# Altium integrated library Analog Devices Data Converters Analog-to-Digital Converters.IntLib: 2404 symbols (part 263 of 346)
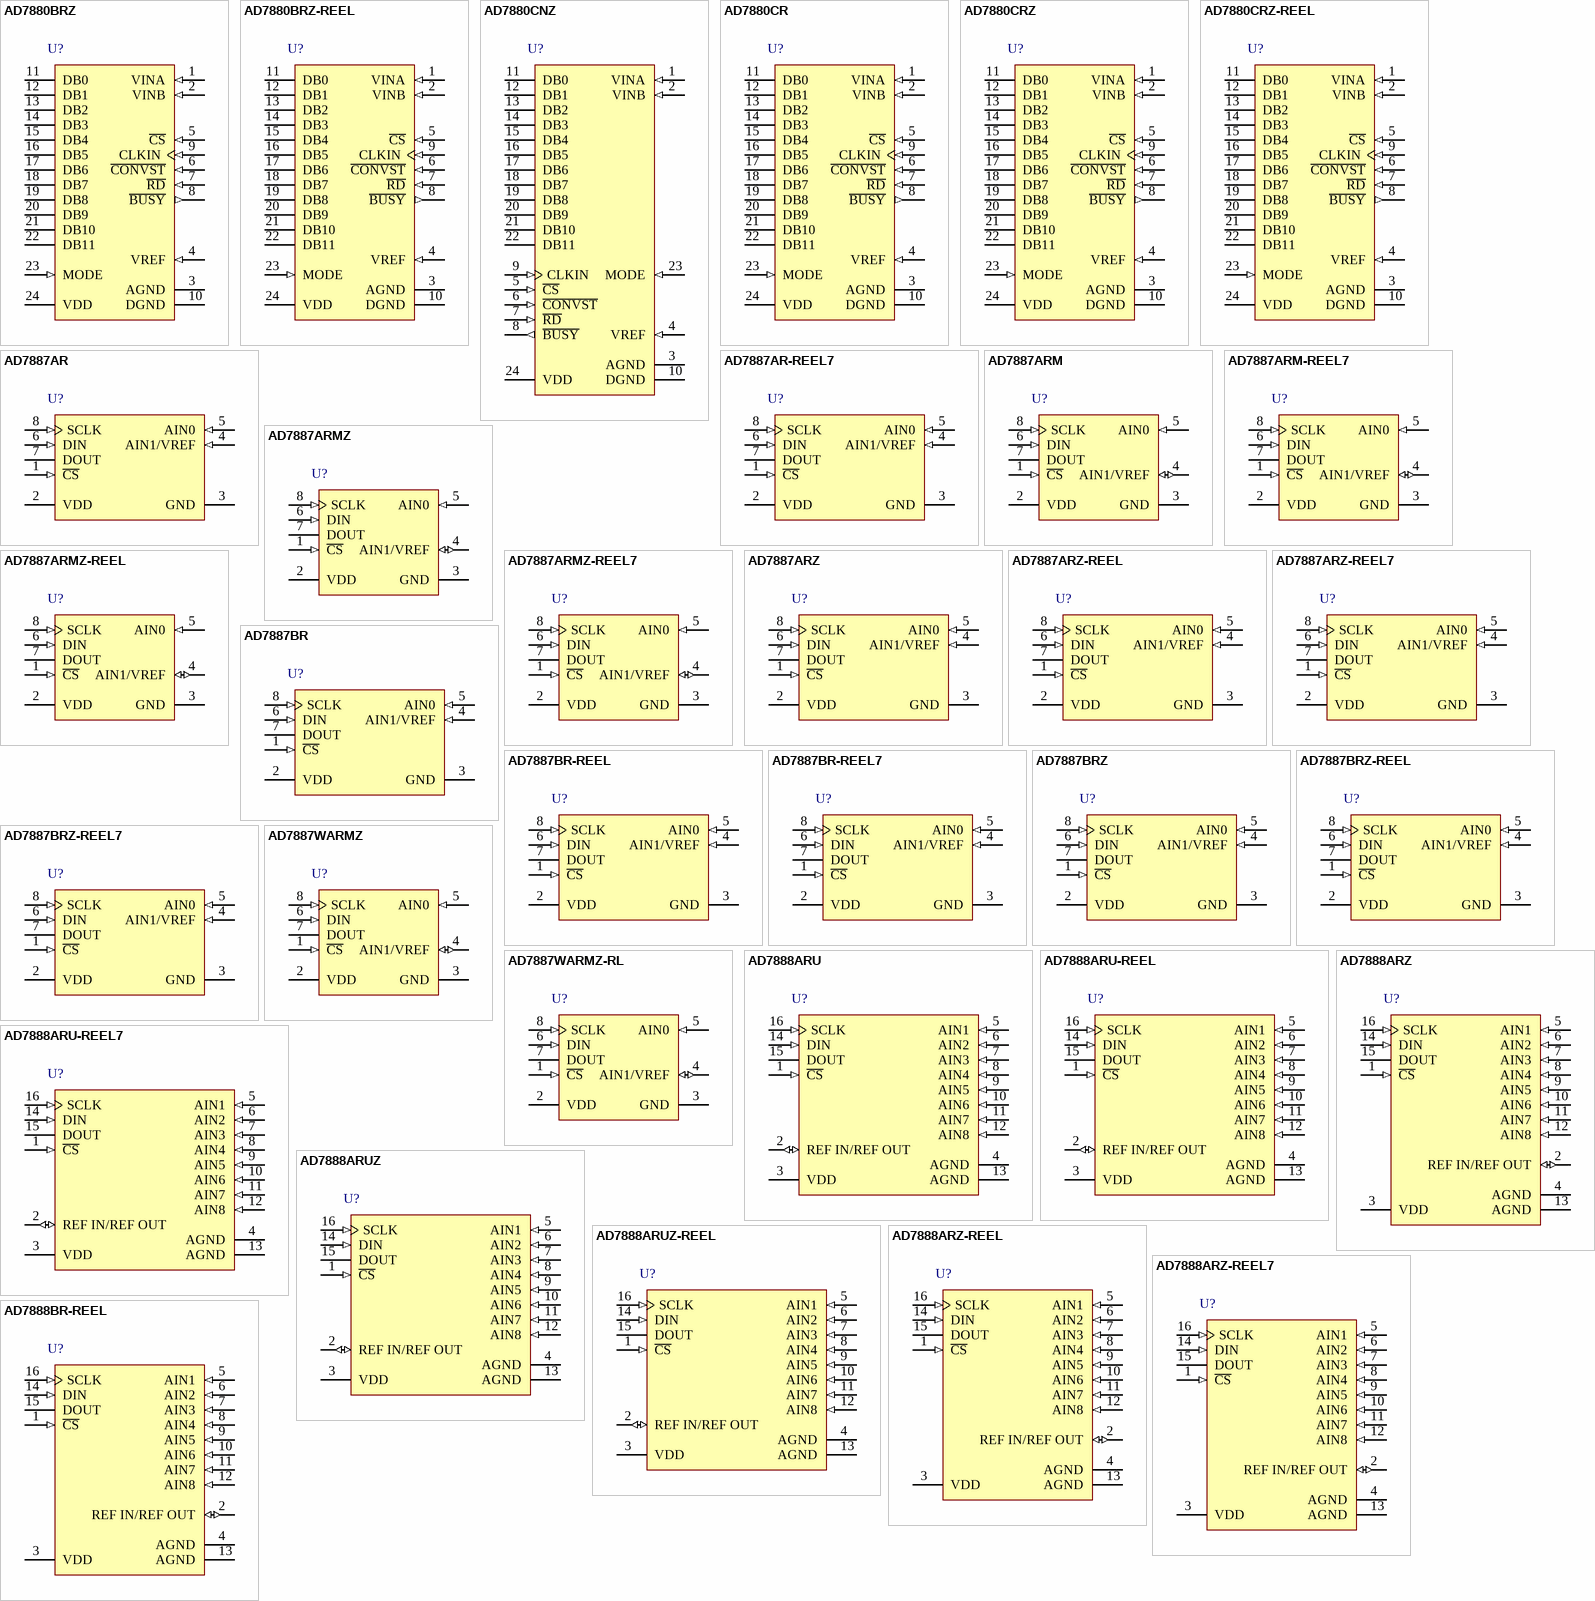
[diagram p394: symbols AD7880BRZ to AD7888BR-REEL]

## AD7887ARMZ-REEL
designator U?
Dual 12-Bit Analog-to-Digital Converter with Serial, SPI Interface, Micropower, 2.7 V to 5.25 V, 125KSPS, -40 to +125 degC, RM-8, Pb-Free, Reel; Generic Part Number: AD7887; Manufacturer: Analog Devices; PartNumber: AD7887ARMZ-REEL; Resolution (Bits): 12; Channels: 2; Throughput Rate (SPS): 125K; Interface: Ser, SPI; Automotive Qualified: Yes; DatasheetVersion: Rev.D; PackageVersion: Aug-2005; PackageReference: RM-8; PackageDescription: 8-Lead Mini Small Outline Package [MSOP]; Supplier 1: Digi-Key; Supplier Part Number 1: AD7887ARMZ-REEL-ND; Supplier 2: Mouser; Supplier Part Number 2: 584-AD7887ARMZ-R; RoHS: Y; Packing: Reel; Mounting Technology: Surface Mount; Code_JEDEC: MO-187-AA; ComponentLink1Description: Manufacturer URL; ComponentLink1URL: http://www.analog.com/en/index.html; ComponentLink2Description: Datasheet; ComponentLink2URL: http://www.analog.com/static/imported-files/data_sheets/AD7887.pdf; ComponentLink3Description: Package Specification; ComponentLink3URL: http://www.analog.com/static/imported-files/packages/PKG_PDF/MSOP%28RM%29/RM_8.pdf; ComponentLink4Description: Product URL; ComponentLink4URL: http://www.analog.com/en/analog-to-digital-converters/ad-converters/ad7887/products/product.html
footprint RM-8_N (TSOP, 8-Leads, Body 3x3mm, Pitch 0.65mm, IPC Medium Density)
footprint RM-8_L (TSOP, 8-Leads, Body 3x3mm, Pitch 0.65mm, IPC High Density)
footprint RM-8_M (TSOP, 8-Leads, Body 3x3mm, Pitch 0.65mm, IPC Low Density)
pins: 1 ~{CS} (in) "Chip Select. Active low logic input. This input provides the dual function of initiating conversions on the AD7887 and also frames the serial data transfer. When the AD7887 operates in its default mode, the C\S\ pin also (See Datasheet)", 2 VDD (power) "Power Supply Input. The VDD range for the AD7887 is from 2.7 V to 5.25 V. When the AD7887 is configured for two-channel operation, this pin also provides the reference source for the part.", 3 GND (power) "Ground Pin. This pin is the ground reference point for all circuitry on the AD7887. In systems with separate AGND and DGND planes, these planes should be tied together as close as possible to this GND pin. Where this is not (See Datasheet)", 4 AIN1/VREF (io) "Analog Input 1/Voltage Reference Input. In single-channel mode, this pin becomes the reference input/output. In this case, the user can either access the internal 2.5 V reference or overdrive the internal reference with the (See Datasheet)", 5 AIN0 (in) "Analog Input 0. In single-channel mode, this is the analog input and the input voltage range is 0 to VREF. In dual-channel mode, it has an analog input range of 0 to VDD.", 6 DIN (in) "Data In. Logic Input. Data to be written to the AD7887control register is provided on this input and clocked into the register on the rising edge of SCLK (see the Control Register section). The AD7887 can be operated as a (See Datasheet)", 7 DOUT (hiz) "Data Out. Logic output. The conversion result from the AD7887 is provided on this output as a serial data stream. The bits are clocked out on the falling edge of the SCLK input. The data stream consists of four leading zeros (See Datasheet)", 8 SCLK (in) "Serial Clock. Logic input. SCLK provides the serial clock for accessing data from the part and writing serial data to the control register. This clock input is also used as the clock source for the AD7887 is conversion (See Datasheet)"

## AD7887ARMZ-REEL7
designator U?
Dual 12-Bit Analog-to-Digital Converter with Serial, SPI Interface, Micropower, 2.7 V to 5.25 V, 125KSPS, -40 to +125 degC, RM-8, Pb-Free, Reel; Generic Part Number: AD7887; Manufacturer: Analog Devices; PartNumber: AD7887ARMZ-REEL7; Resolution (Bits): 12; Channels: 2; Throughput Rate (SPS): 125K; Interface: Ser, SPI; Automotive Qualified: Yes; DatasheetVersion: Rev.D; PackageVersion: Aug-2005; PackageReference: RM-8; PackageDescription: 8-Lead Mini Small Outline Package [MSOP]; Supplier 1: Digi-Key; Supplier Part Number 1: AD7887ARMZ-REEL7-ND; Supplier 2: Mouser; Supplier Part Number 2: 584-AD7887ARMZ-R7; RoHS: Y; Packing: Reel; Mounting Technology: Surface Mount; Code_JEDEC: MO-187-AA; ComponentLink1Description: Manufacturer URL; ComponentLink1URL: http://www.analog.com/en/index.html; ComponentLink2Description: Datasheet; ComponentLink2URL: http://www.analog.com/static/imported-files/data_sheets/AD7887.pdf; ComponentLink3Description: Package Specification; ComponentLink3URL: http://www.analog.com/static/imported-files/packages/PKG_PDF/MSOP%28RM%29/RM_8.pdf; ComponentLink4Description: Product URL; ComponentLink4URL: http://www.analog.com/en/analog-to-digital-converters/ad-converters/ad7887/products/product.html
footprint RM-8_N (TSOP, 8-Leads, Body 3x3mm, Pitch 0.65mm, IPC Medium Density)
footprint RM-8_L (TSOP, 8-Leads, Body 3x3mm, Pitch 0.65mm, IPC High Density)
footprint RM-8_M (TSOP, 8-Leads, Body 3x3mm, Pitch 0.65mm, IPC Low Density)
pins: 1 ~{CS} (in) "Chip Select. Active low logic input. This input provides the dual function of initiating conversions on the AD7887 and also frames the serial data transfer. When the AD7887 operates in its default mode, the C\S\ pin also (See Datasheet)", 2 VDD (power) "Power Supply Input. The VDD range for the AD7887 is from 2.7 V to 5.25 V. When the AD7887 is configured for two-channel operation, this pin also provides the reference source for the part.", 3 GND (power) "Ground Pin. This pin is the ground reference point for all circuitry on the AD7887. In systems with separate AGND and DGND planes, these planes should be tied together as close as possible to this GND pin. Where this is not (See Datasheet)", 4 AIN1/VREF (io) "Analog Input 1/Voltage Reference Input. In single-channel mode, this pin becomes the reference input/output. In this case, the user can either access the internal 2.5 V reference or overdrive the internal reference with the (See Datasheet)", 5 AIN0 (in) "Analog Input 0. In single-channel mode, this is the analog input and the input voltage range is 0 to VREF. In dual-channel mode, it has an analog input range of 0 to VDD.", 6 DIN (in) "Data In. Logic Input. Data to be written to the AD7887control register is provided on this input and clocked into the register on the rising edge of SCLK (see the Control Register section). The AD7887 can be operated as a (See Datasheet)", 7 DOUT (hiz) "Data Out. Logic output. The conversion result from the AD7887 is provided on this output as a serial data stream. The bits are clocked out on the falling edge of the SCLK input. The data stream consists of four leading zeros (See Datasheet)", 8 SCLK (in) "Serial Clock. Logic input. SCLK provides the serial clock for accessing data from the part and writing serial data to the control register. This clock input is also used as the clock source for the AD7887 is conversion (See Datasheet)"

## AD7887ARZ
designator U?
Dual 12-Bit Analog-to-Digital Converter with Serial, SPI Interface, Micropower, 2.7 V to 5.25 V, 125KSPS, -40 to +125 degC, R-8, Pb-Free, Tube; Generic Part Number: AD7887; Manufacturer: Analog Devices; PartNumber: AD7887ARZ; Resolution (Bits): 12; Channels: 2; Throughput Rate (SPS): 125K; Interface: Ser, SPI; Automotive Qualified: Yes; DatasheetVersion: Rev.D; PackageVersion: 060506-A; PackageReference: R-8; PackageDescription: 8-Lead Standard Small Outline Package [SOIC_N] Narrow Body; Supplier 1: Digi-Key; Supplier Part Number 1: AD7887ARZ-ND; Supplier 2: Newark; Supplier Part Number 2: 59K5822; Supplier 3: Mouser; Supplier Part Number 3: 584-AD7887ARZ; RoHS: Y; Packing: Tube; Mounting Technology: Surface Mount; Code_JEDEC: MS-012-AA; Code_IPC: SOIC127P600-8; ComponentLink1Description: Manufacturer URL; ComponentLink1URL: http://www.analog.com/en/index.html; ComponentLink2Description: Datasheet; ComponentLink2URL: http://www.analog.com/static/imported-files/data_sheets/AD7887.pdf; ComponentLink3Description: Package Specification; ComponentLink3URL: http://www.analog.com/static/imported-files/packages/PKG_PDF/SOIC_Narrow%20(R)/R_8.pdf; ComponentLink4Description: Product URL; ComponentLink4URL: http://www.analog.com/en/analog-to-digital-converters/ad-converters/ad7887/products/product.html
footprint R-8_N (SOIC, 8-Leads, Body 4.9x3.9mm, Pitch 1.27mm, IPC Medium Density)
footprint R-8_L (SOIC, 8-Leads, Body 4.9x3.9mm, Pitch 1.27mm, IPC High Density)
footprint R-8_M (SOIC, 8-Leads, Body 4.9x3.9mm, Pitch 1.27mm, IPC Low Density)
pins: 1 ~{CS} (in) "Chip Select. Active low logic input. This input provides the dual function of initiating conversions on the AD7887 and also frames the serial data transfer. When the AD7887 operates in its default mode, the C\S\ pin also (See Datasheet)", 2 VDD (power) "Power Supply Input. The VDD range for the AD7887 is from 2.7 V to 5.25 V. When the AD7887 is configured for two-channel operation, this pin also provides the reference source for the part.", 3 GND (power) "Ground Pin. This pin is the ground reference point for all circuitry on the AD7887. In systems with separate AGND and DGND planes, these planes should be tied together as close as possible to this GND pin. Where this is not (See Datasheet)", 4 AIN1/VREF (in) "Analog Input 1/Voltage Reference Input. In single-channel mode, this pin becomes the reference input/output. In this case, the user can either access the internal 2.5 V reference or overdrive the internal reference with the (See Datasheet)", 5 AIN0 (in) "Analog Input 0. In single-channel mode, this is the analog input and the input voltage range is 0 to VREF. In dual-channel mode, it has an analog input range of 0 to VDD.", 6 DIN (in) "Data In. Logic Input. Data to be written to the AD7887’s control register is provided on this input and clocked into the register on the rising edge of SCLK (see the Control Register section). The AD7887 can be operated as a (See Datasheet)", 7 DOUT (hiz) "Data Out. Logic output. The conversion result from the AD7887 is provided on this output as a serial data stream. The bits are clocked out on the falling edge of the SCLK input. The data stream consists of four leading zeros (See Datasheet)", 8 SCLK (in) "Serial Clock. Logic input. SCLK provides the serial clock for accessing data from the part and writing serial data to the control register. This clock input is also used as the clock source for the AD7887’s conversion (See Datasheet)"

## AD7887ARZ-REEL
designator U?
Dual 12-Bit Analog-to-Digital Converter with Serial, SPI Interface, Micropower, 2.7 V to 5.25 V, 125KSPS, -40 to +125 degC, R-8, Pb-Free, Reel; Generic Part Number: AD7887; Manufacturer: Analog Devices; PartNumber: AD7887ARZ-REEL; Resolution (Bits): 12; Channels: 2; Throughput Rate (SPS): 125K; Interface: Ser, SPI; Automotive Qualified: Yes; DatasheetVersion: Rev.D; PackageVersion: 060506-A; PackageReference: R-8; PackageDescription: 8-Lead Standard Small Outline Package [SOIC_N] Narrow Body; Supplier 1: Digi-Key; Supplier Part Number 1: AD7887ARZ-REEL-ND; RoHS: Y; Packing: Reel; Mounting Technology: Surface Mount; Code_JEDEC: MS-012-AA; Code_IPC: SOIC127P600-8; ComponentLink1Description: Manufacturer URL; ComponentLink1URL: http://www.analog.com/en/index.html; ComponentLink2Description: Datasheet; ComponentLink2URL: http://www.analog.com/static/imported-files/data_sheets/AD7887.pdf; ComponentLink3Description: Package Specification; ComponentLink3URL: http://www.analog.com/static/imported-files/packages/PKG_PDF/SOIC_Narrow%20(R)/R_8.pdf; ComponentLink4Description: Product URL; ComponentLink4URL: http://www.analog.com/en/analog-to-digital-converters/ad-converters/ad7887/products/product.html
footprint R-8_N (SOIC, 8-Leads, Body 4.9x3.9mm, Pitch 1.27mm, IPC Medium Density)
footprint R-8_L (SOIC, 8-Leads, Body 4.9x3.9mm, Pitch 1.27mm, IPC High Density)
footprint R-8_M (SOIC, 8-Leads, Body 4.9x3.9mm, Pitch 1.27mm, IPC Low Density)
pins: 1 ~{CS} (in) "Chip Select. Active low logic input. This input provides the dual function of initiating conversions on the AD7887 and also frames the serial data transfer. When the AD7887 operates in its default mode, the C\S\ pin also (See Datasheet)", 2 VDD (power) "Power Supply Input. The VDD range for the AD7887 is from 2.7 V to 5.25 V. When the AD7887 is configured for two-channel operation, this pin also provides the reference source for the part.", 3 GND (power) "Ground Pin. This pin is the ground reference point for all circuitry on the AD7887. In systems with separate AGND and DGND planes, these planes should be tied together as close as possible to this GND pin. Where this is not (See Datasheet)", 4 AIN1/VREF (in) "Analog Input 1/Voltage Reference Input. In single-channel mode, this pin becomes the reference input/output. In this case, the user can either access the internal 2.5 V reference or overdrive the internal reference with the (See Datasheet)", 5 AIN0 (in) "Analog Input 0. In single-channel mode, this is the analog input and the input voltage range is 0 to VREF. In dual-channel mode, it has an analog input range of 0 to VDD.", 6 DIN (in) "Data In. Logic Input. Data to be written to the AD7887’s control register is provided on this input and clocked into the register on the rising edge of SCLK (see the Control Register section). The AD7887 can be operated as a (See Datasheet)", 7 DOUT (hiz) "Data Out. Logic output. The conversion result from the AD7887 is provided on this output as a serial data stream. The bits are clocked out on the falling edge of the SCLK input. The data stream consists of four leading zeros (See Datasheet)", 8 SCLK (in) "Serial Clock. Logic input. SCLK provides the serial clock for accessing data from the part and writing serial data to the control register. This clock input is also used as the clock source for the AD7887’s conversion (See Datasheet)"

## AD7887ARZ-REEL7
designator U?
Dual 12-Bit Analog-to-Digital Converter with Serial, SPI Interface, Micropower, 2.7 V to 5.25 V, 125KSPS, -40 to +125 degC, R-8, Pb-Free, Reel; Generic Part Number: AD7887; Manufacturer: Analog Devices; PartNumber: AD7887ARZ-REEL7; Resolution (Bits): 12; Channels: 2; Throughput Rate (SPS): 125K; Interface: Ser, SPI; Automotive Qualified: Yes; DatasheetVersion: Rev.D; PackageVersion: 060506-A; PackageReference: R-8; PackageDescription: 8-Lead Standard Small Outline Package [SOIC_N] Narrow Body; Supplier 1: Digi-Key; Supplier Part Number 1: AD7887ARZ-REEL7-ND; Supplier 2: Mouser; Supplier Part Number 2: 584-AD7887ARZ-R7; RoHS: Y; Packing: Reel; Mounting Technology: Surface Mount; Code_JEDEC: MS-012-AA; Code_IPC: SOIC127P600-8; ComponentLink1Description: Manufacturer URL; ComponentLink1URL: http://www.analog.com/en/index.html; ComponentLink2Description: Datasheet; ComponentLink2URL: http://www.analog.com/static/imported-files/data_sheets/AD7887.pdf; ComponentLink3Description: Package Specification; ComponentLink3URL: http://www.analog.com/static/imported-files/packages/PKG_PDF/SOIC_Narrow%20(R)/R_8.pdf; ComponentLink4Description: Product URL; ComponentLink4URL: http://www.analog.com/en/analog-to-digital-converters/ad-converters/ad7887/products/product.html
footprint R-8_N (SOIC, 8-Leads, Body 4.9x3.9mm, Pitch 1.27mm, IPC Medium Density)
footprint R-8_L (SOIC, 8-Leads, Body 4.9x3.9mm, Pitch 1.27mm, IPC High Density)
footprint R-8_M (SOIC, 8-Leads, Body 4.9x3.9mm, Pitch 1.27mm, IPC Low Density)
pins: 1 ~{CS} (in) "Chip Select. Active low logic input. This input provides the dual function of initiating conversions on the AD7887 and also frames the serial data transfer. When the AD7887 operates in its default mode, the C\S\ pin also (See Datasheet)", 2 VDD (power) "Power Supply Input. The VDD range for the AD7887 is from 2.7 V to 5.25 V. When the AD7887 is configured for two-channel operation, this pin also provides the reference source for the part.", 3 GND (power) "Ground Pin. This pin is the ground reference point for all circuitry on the AD7887. In systems with separate AGND and DGND planes, these planes should be tied together as close as possible to this GND pin. Where this is not (See Datasheet)", 4 AIN1/VREF (in) "Analog Input 1/Voltage Reference Input. In single-channel mode, this pin becomes the reference input/output. In this case, the user can either access the internal 2.5 V reference or overdrive the internal reference with the (See Datasheet)", 5 AIN0 (in) "Analog Input 0. In single-channel mode, this is the analog input and the input voltage range is 0 to VREF. In dual-channel mode, it has an analog input range of 0 to VDD.", 6 DIN (in) "Data In. Logic Input. Data to be written to the AD7887’s control register is provided on this input and clocked into the register on the rising edge of SCLK (see the Control Register section). The AD7887 can be operated as a (See Datasheet)", 7 DOUT (hiz) "Data Out. Logic output. The conversion result from the AD7887 is provided on this output as a serial data stream. The bits are clocked out on the falling edge of the SCLK input. The data stream consists of four leading zeros (See Datasheet)", 8 SCLK (in) "Serial Clock. Logic input. SCLK provides the serial clock for accessing data from the part and writing serial data to the control register. This clock input is also used as the clock source for the AD7887’s conversion (See Datasheet)"